# EAGLE library part EXTCON6P (library ublox)
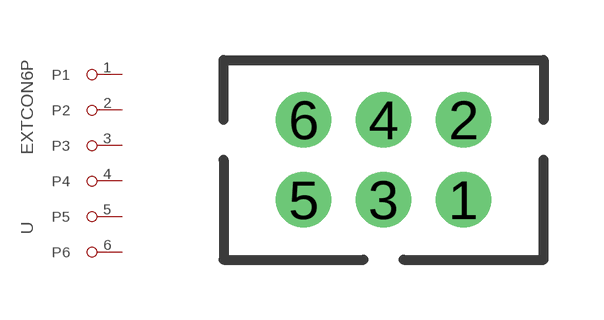
[diagram p3: symbol with the pads of PINH-2MM-6P; footprint PINH-2MM-6P]

Designator prefix -

## EXTCON6P  [PINH-2MM-6P]
1  P1
2  P2
3  P3
4  P4
5  P5
6  P6

## Footprint PINH-2MM-6P (pad centres in mm)
drill 0.889 round: 1 2,-1; 2 2,1; 3 0,-1; 4 0,1; 5 -2,-1; 6 -2,1